# EAGLE library part ATA6870 (library myLib)
ATA6870-PLQW Battery Management 48QFN
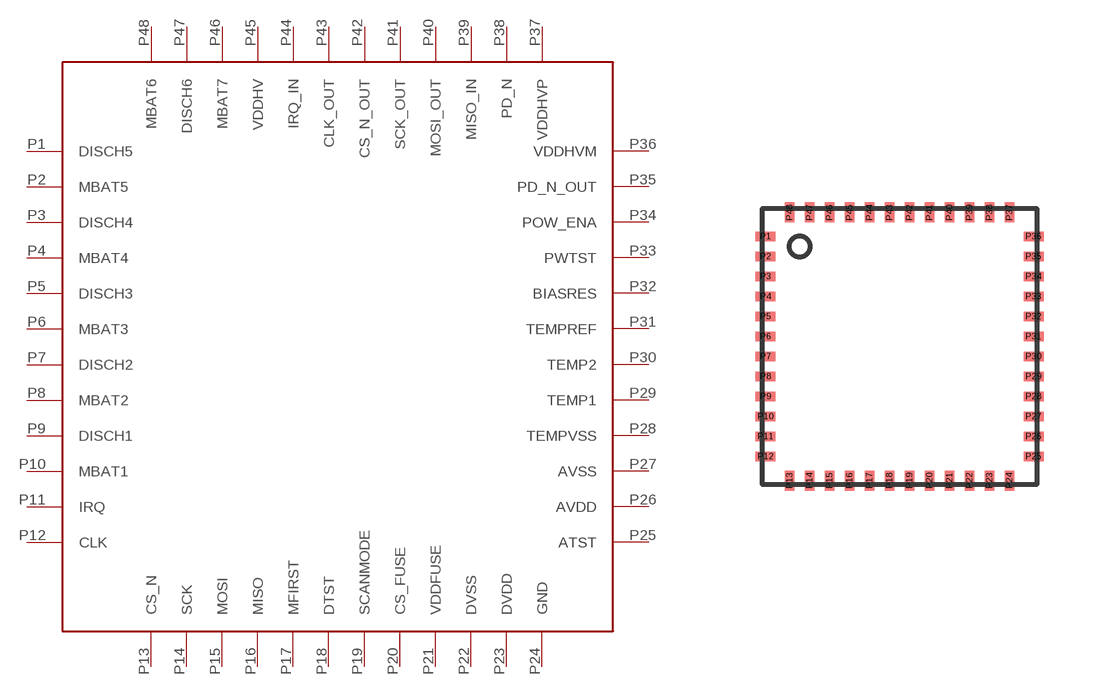
[diagram p6: symbol with the pads of QFN48; footprint QFN48]

Designator prefix -

## ATA6870  [QFN48]
P1  DISCH5
P2  MBAT5
P3  DISCH4
P4  MBAT4
P5  DISCH3
P6  MBAT3
P7  DISCH2
P8  MBAT2
P9  DISCH1
P10  MBAT1
P11  IRQ
P12  CLK
P13  CS_N
P14  SCK
P15  MOSI
P16  MISO
P17  MFIRST
P18  DTST
P19  SCANMODE
P20  CS_FUSE
P21  VDDFUSE
P22  DVSS
P23  DVDD
P24  GND
P25  ATST
P26  AVDD
P27  AVSS
P28  TEMPVSS
P29  TEMP1
P30  TEMP2
P31  TEMPREF
P32  BIASRES
P33  PWTST
P34  POW_ENA
P35  PD_N_OUT
P36  VDDHVM
P37  VDDHVP
P38  PD_N
P39  MISO_IN
P40  MOSI_OUT
P41  SCK_OUT
P42  CS_N_OUT
P43  CLK_OUT
P44  IRQ_IN
P45  VDDHV
P46  MBAT7
P47  DISCH6
P48  MBAT6

## Footprint QFN48 (pad centres in mm)
smd 0.5 x 0.23: P1 -3.35,2.75; P2 -3.35,2.25; P3 -3.35,1.75; P4 -3.35,1.25; P5 -3.35,0.75; P6 -3.35,0.25; P7 -3.35,-0.25; P8 -3.35,-0.75; P9 -3.35,-1.25; P10 -3.35,-1.75; P11 -3.35,-2.25; P12 -3.35,-2.75; P25 3.35,-2.75; P26 3.35,-2.25; P27 3.35,-1.75; P28 3.35,-1.25; P29 3.35,-0.75; P30 3.35,-0.25; P31 3.35,0.25; P32 3.35,0.75; P33 3.35,1.25; P34 3.35,1.75; P35 3.35,2.25; P36 3.35,2.75
smd 0.23 x 0.5: P13 -2.75,-3.35; P14 -2.25,-3.35; P15 -1.75,-3.35; P16 -1.25,-3.35; P17 -0.75,-3.35; P18 -0.25,-3.35; P19 0.25,-3.35; P20 0.75,-3.35; P21 1.25,-3.35; P22 1.75,-3.35; P23 2.25,-3.35; P24 2.75,-3.35; P37 2.75,3.35; P38 2.25,3.35; P39 1.75,3.35; P40 1.25,3.35; P41 0.75,3.35; P42 0.25,3.35; P43 -0.25,3.35; P44 -0.75,3.35; P45 -1.25,3.35; P46 -1.75,3.35; P47 -2.25,3.35; P48 -2.75,3.35